# EAGLE library part STM8_MINIKIT_20_W_PWR (library STM8_Minikit_20)
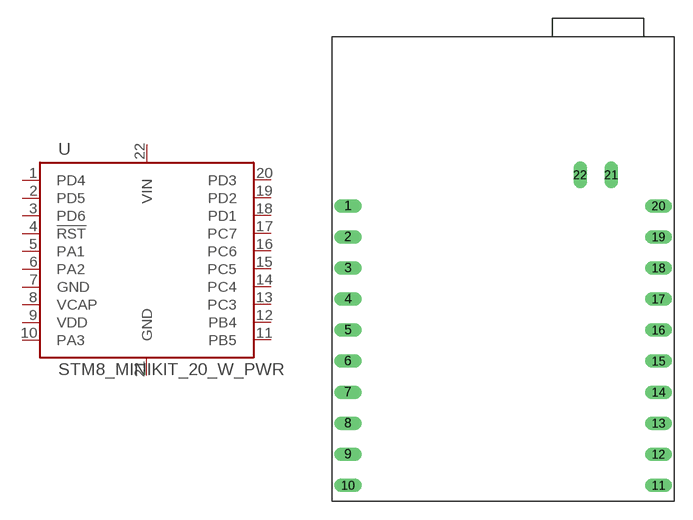
[diagram p1: symbol with the pads of STM8_MINIKIT_20_W_PWR; footprint STM8_MINIKIT_20_W_PWR]

Designator prefix U

## STM8_MINIKIT_20_W_PWR  [STM8_MINIKIT_20_W_PWR]
1  PD4
2  PD5
3  PD6
4  !RST  in
5  PA1
6  PA2
7  GND  pas
8  VCAP  sup
9  VDD  pas
10  PA3
11  PB5
12  PB4
13  PC3
14  PC4
15  PC5
16  PC6
17  PC7
18  PD1
19  PD2
20  PD3
21  GND  pas
22  VIN  pas

## Footprint STM8_MINIKIT_20_W_PWR (pad centres in mm)
drill 0.6 long: 1 -13.94,11.46; 2 -13.94,8.92; 3 -13.94,6.38; 4 -13.94,3.84; 5 -13.94,1.3; 6 -13.94,-1.24; 7 -13.94,-3.78; 8 -13.94,-6.32; 9 -13.94,-8.86; 10 -13.94,-11.4; 11 11.46,-11.4; 12 11.46,-8.86; 13 11.46,-6.32; 14 11.46,-3.78; 15 11.46,-1.24; 16 11.46,1.3; 17 11.46,3.84; 18 11.46,6.38; 19 11.46,8.92; 20 11.46,11.46; 21 7.59,14; 22 5.05,14